# Altium footprint library TO.PcbLib: 6 footprints
Each footprint in its own frame and in the unit in brackets; x right, y up, seen from the top. Pads: shape width x height; smd on the part's side, far side on the other; paste and mask are expansions set on the pad; w line width, h text height; cw(c..) or ccw(c..) is an arc to the next point about the centre after c.
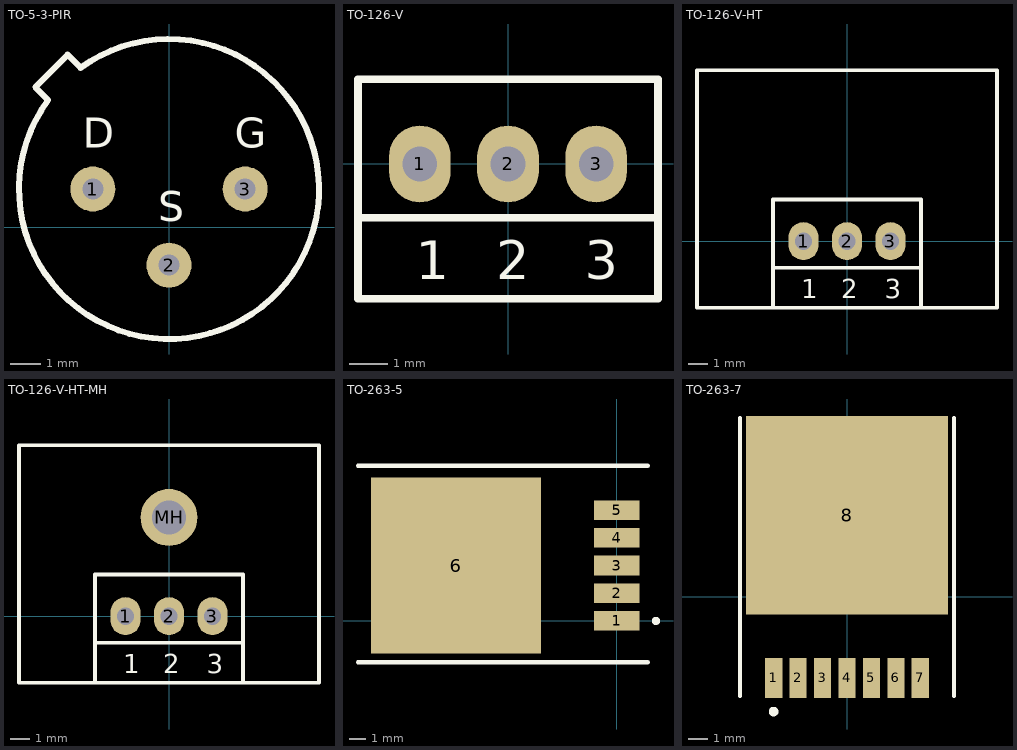
[diagram p0: the footprints below, top view; thin cyan lines are the x and y axes]

## TO-5-3-PIR [mm]
height 4.8
pads (3):
  round 1.5 hole 0.7: 1(-2.54,1.27) 2(0,-1.27) 3(2.54,1.27)
Top Overlay:
  lines w0.2: -3.413,5.712 -4.458,4.666 -4.026,4.235 ccw(c0,1.27) -2.944,5.312 -3.378,5.746
  text "G" at 2.19,2.65 h1
  text "S" at -0.36,0.19 h1
  text "D" at -2.87,2.65 h1
3D body "User Library-PIR-SensorComp-shoterPins.step": height 4.3, standoff -2.45, extent -4.549,-3.28 4.55,5.819

## TO-126-V [mm]
height 13.4
pads (3):
  oval 1.6x2 hole 0.9: 1(-2.29,0) 2(0,0) 3(2.29,0)
Top Overlay:
  lines w0.2: -3.9,-1.4 -3.9,-3.5 3.9,-3.5 3.9,-1.4 ; -3.9,-1.4 3.9,-1.4 ; -3.9,-1.4 -3.9,2.2 3.9,2.2 3.9,-1.4
  text "1" at -2.4,-3 h1
  text "2" at -0.3,-3 h1
  text "3" at 2,-3 h1
3D body "User Library-TO-126-1.step": height 17.04, standoff -10.68, extent -4,-1.2 4,2.05

## TO-126-V-HT [mm]
height 13.4
pads (3):
  oval 1.6x2 hole 0.9: 1(-2.29,0) 2(0,0) 3(2.29,0)
Top Overlay:
  lines w0.2: 3.8,-3.5 7.9,-3.5 7.9,9 -7.9,9 -7.9,-3.5 -3.9,-3.5 ; -3.9,-3.5 -3.9,-1.4 ; -3.9,-3.5 3.9,-3.5 3.9,-1.4 ; -3.9,-1.4 3.9,-1.4 ; -3.9,-1.4 -3.9,2.2 3.9,2.2 3.9,-1.4
  text "1" at -2.4,-3 h1
  text "2" at -0.3,-3 h1
  text "3" at 2,-3 h1
3D body "User Library-heatsink TO126.step": height 25, standoff -3.8, extent -7.39,-2.285 7.391,8.516
3D body "User Library-TO-126-1.step": height 21.54, standoff -6.18, extent -4,-1.2 4,2.05

## TO-126-V-HT-MH [mm]
height 13.4
pads (4):
  oval 1.6x2 hole 0.9: 1(-2.29,0) 2(0,0) 3(2.29,0)
  round 3 hole 1.8: MH(0,5.2)
Top Overlay:
  lines w0.2: 3.8,-3.5 7.9,-3.5 7.9,9 -7.9,9 -7.9,-3.5 -3.9,-3.5 ; -3.9,-3.5 3.9,-3.5 3.9,-1.4 ; -3.9,-3.5 -3.9,-1.4 ; -3.9,-1.4 -3.9,2.2 3.9,2.2 3.9,-1.4 ; -3.9,-1.4 3.9,-1.4
  text "3" at 2,-3 h1
  text "2" at -0.3,-3 h1
  text "1" at -2.4,-3 h1
3D body "User Library-TO-126-1.step": height 21.54, standoff -6.18, extent -4,-1.2 4,2.05
3D body "User Library-heatsink TO126.step": height 25, standoff -3.8, extent -7.39,-2.285 7.391,8.516

## TO-263-5 [mm]
pads (6):
  rect 2.8x1.2 smd: 1(0,0) 2(0,1.7) 3(0,3.4) 4(0,5.1) 5(0,6.8)
  rect 10.41x10.8 smd: 6(-9.86,3.4)
Top Overlay:
  circle w0.25: c2.413,0 r0.125
  lines w0.254: -15.875,-2.54 1.905,-2.54 ; -15.875,9.525 1.905,9.525
3D body "TO-263-5.STEP": height 4.67, standoff 0, extent -14.305,-1.771 0.045,8.629

## TO-263-7 [mm]
pads (8):
  rect 0.9x2.1 smd: 1(-3.81,-4.225) 2(-2.54,-4.225) 3(-1.27,-4.225) 4(0,-4.225) 5(1.27,-4.225) 6(2.54,-4.225) 7(3.81,-4.225)
  rect 10.5x10.3 smd: 8(0,4.225)
Top Overlay:
  circle w0.25: c-3.81,-5.969 r0.125
  lines w0.2: -5.55,-5.175 -5.55,9.275 ; 5.55,-5.175 5.55,9.275